# Altium footprint library SparkFun-Passives.PCBLIB: 100 footprints (part 4 of 7)
Each footprint in its own frame and in the unit in brackets; x right, y up, seen from the top. Pads: shape width x height; smd on the part's side, far side on the other; paste and mask are expansions set on the pad; w line width, h text height; cw(c..) or ccw(c..) is an arc to the next point about the centre after c.
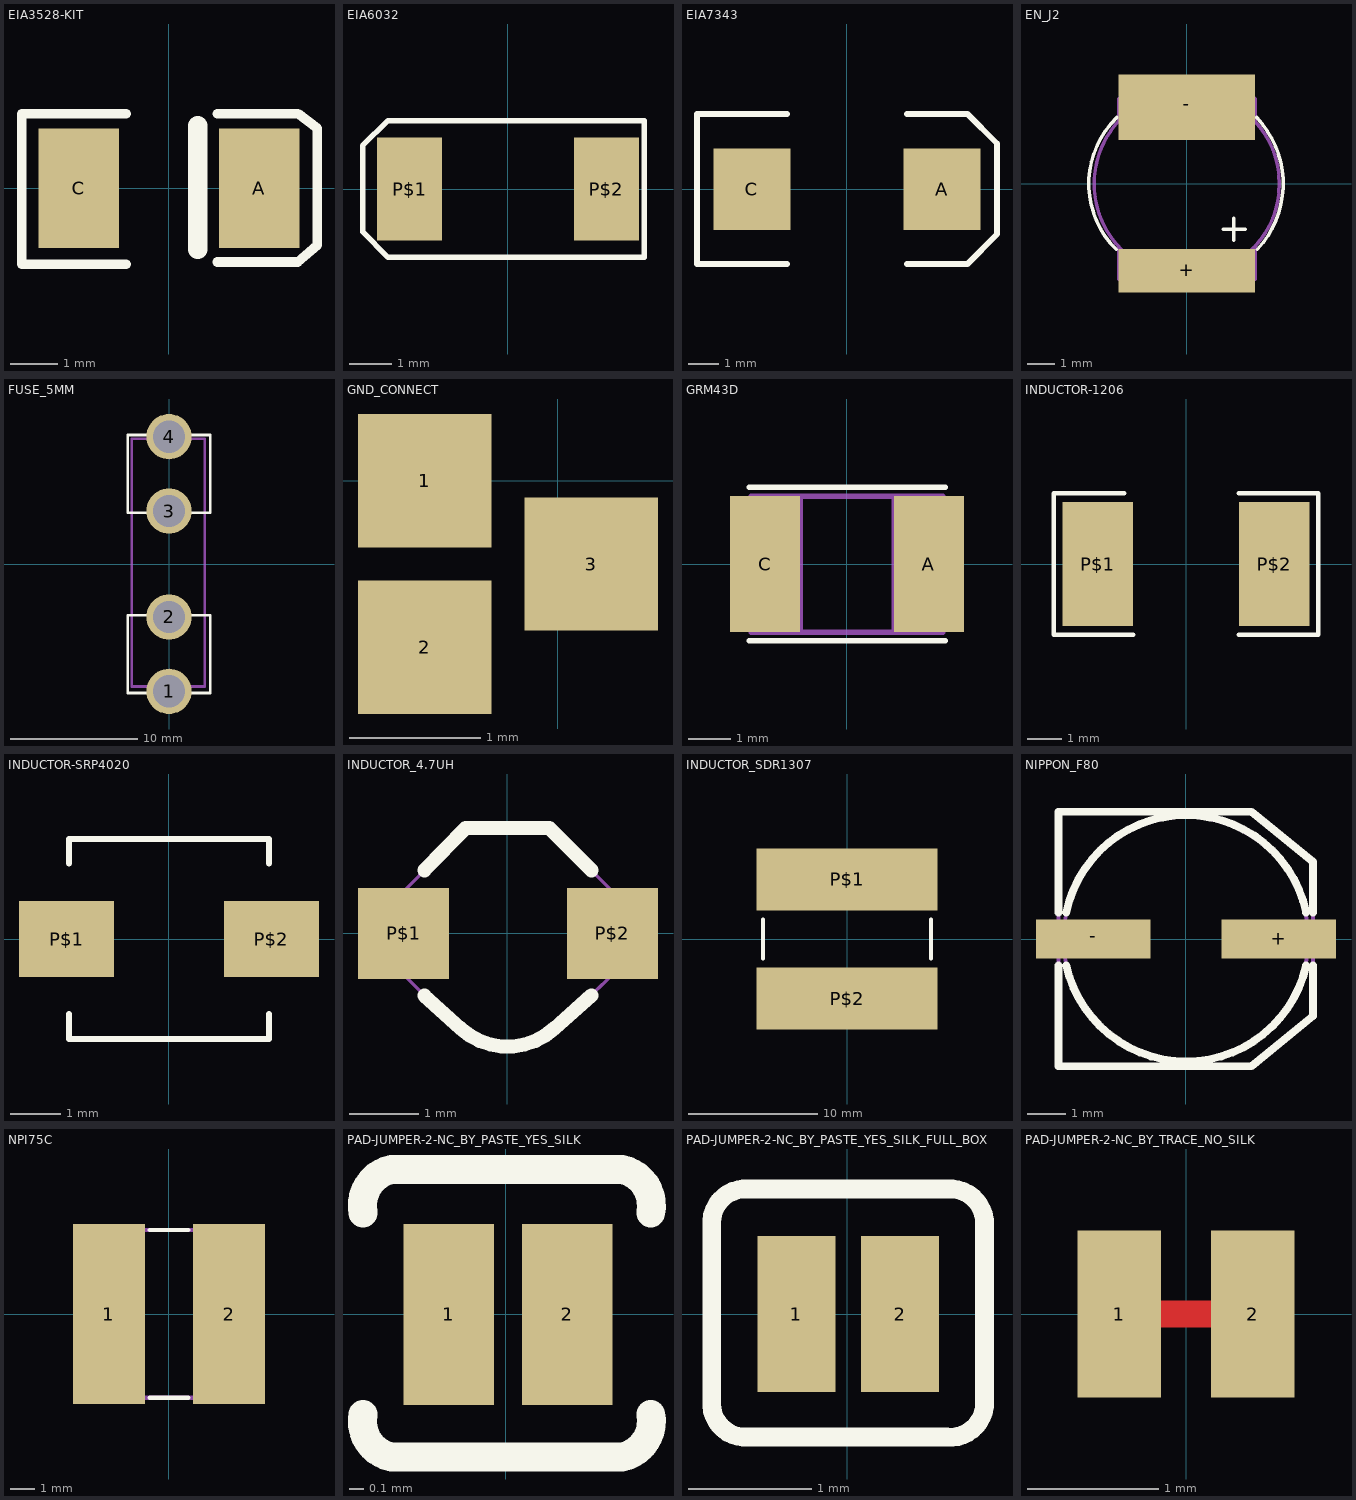
[diagram p3: the footprints below, top view; thin cyan lines are the x and y axes]

## EIA3528-KIT [mil]
pads (2):
  rect 67x99 smd: A(75,0) C(-74.8,0)
Top Overlay:
  lines w8: -35.43,-62.99 -122.05,-62.99 -122.05,62 -35.43,62 ; 40,-61.02 107,-61.02 123,-47.24 123,50 107,62 40,62
  lines w16: 24,-50.63 24,52
Mechanical 2:
  text ">NAME" at -89.37,-50 h77.5
Mechanical 4:
  text ">VALUE" at 128,-53.94 h77.5

## EIA6032 [mil]
pads (2):
  rect 60x95 smd: P$1(-90.55,0) P$2(91,0)
Top Overlay:
  lines w5: -133.86,-39.37 -133.86,40 -110.24,63 126,63 126,-62.99 -110.24,-62.99 -133.86,-39.37

## EIA7343 [mil]
pads (2):
  rect 101x107 smd: A(125,0) C(-124.8,0)
Top Overlay:
  lines w8: -78.74,-98.43 -196.85,-98.43 -196.85,99 -78.74,99 ; 79,-98.43 158,-98.43 197,-59.06 197,60 158,99 79,99
Mechanical 2:
  text ">Name" at -50,50 h24.8
Mechanical 4:
  text ">Value" at -50,-50 h24.8

## EN_J2 [mil]
pads (2):
  rect 197x63 smd: +(0,-125.98)
  rect 197x95 smd: -(0,111)
Top Overlay:
  lines w5: -102,-95 cw(c-8,0.01) -101,96 ; 53,-66 85,-66 ; 68,-82 68,-50 ; 101,96 cw(c0.5,-0.03) 102,-95
Mechanical 2:
  text ">NAME" at -89.76,26 h24.8
Mechanical 4:
  text ">VALUE" at -90.94,-47.64 h24.8
Mechanical 16:
  circle w5: c0,0 r134
  lines w5: -98.43,-90.55 -98.43,-137.8 99,-137.8 99,-90.55 ; -98.43,91 -98.43,123 -82.68,138 83,138 99,123 99,91

## FUSE_5MM [mil]
pads (4):
  round 140 hole 100: 1(0,-393.7) 2(0,-163.7) 3(0,164) 4(0,394)
Top Overlay:
  lines w8: -127,-161.7 -127,-398.7 127,-398.7 127,-158.7 -127,-158.7 ; 127,159 -127,159 -127,399 127,399 127,162
Mechanical 16:
  lines w8: -115,-378.7 -115,387 110,387 110,362 110,-378.7 10,-378.7 -115,-378.7

## GND_CONNECT [mil]
pads (3):
  rect 40x40 smd: 1(-40,0) 2(-40,-50) 3(10,-25)
Mechanical 2:
  text ">NAME" at -35,50 h77.5
Mechanical 4:
  text ">VALUE" at -45,-160 h77.5

## GRM43D [mil]
pads (2):
  rect 65x126 smd: A(76,0) C(-75.87,0)
Top Overlay:
  lines w5: -90.55,-70.87 91,-70.87 ; -90.55,71 91,71
Mechanical 2:
  text ">NAME" at -78.74,79 h24.8
Mechanical 4:
  text ">VALUE" at 0,-78.74 h24.8
Mechanical 16:
  rectangle: -86.61,-62.99 -43.31,63
  rectangle: 44,-62.99 87,63
  lines w5: -43.31,-62.99 -88.58,-62.99 -88.58,63 -43.31,63 ; -43.31,-62.99 44,-62.99 ; -43.31,-62.99 -43.31,63 ; -43.31,63 44,63 ; 44,-62.99 89,-62.99 89,63 44,63 ; 44,-62.99 44,63

## INDUCTOR-1206 [mil]
pads (2):
  rect 80x140 smd: P$1(-100,0) P$2(100,0)
Top Overlay:
  lines w5: -70,80 -150,80 -150,-80 -60,-80 ; 60,-80 150,-80 150,80 60,80
Mechanical 2:
  text ">Name" at -50,100 h24.8
Mechanical 4:
  text ">Value" at -50,-100 h24.8

## INDUCTOR-SRP4020 [mil]
pads (2):
  rect 75x60 smd: P$1(-80.71,0) P$2(81,0)
Top Overlay:
  lines w5: -78.74,-59.06 -78.74,-78.74 79,-78.74 79,-59.06 ; -78.74,60 -78.74,79 79,79 79,60
Mechanical 2:
  text ">NAME" at -80,90 h27.2
  text ">VALUE" at -80,-120 h27.2

## INDUCTOR_4.7UH [mil]
pads (2):
  rect 52x52 smd: P$1(-59.06,0) P$2(60,0)
Top Overlay:
  lines w8: -47.24,-35.43 -26.7,-54.09 ccw(c0.15,-25) 27,-54.09 48,-35.43 ; -47.24,36 -23.62,60 24,60 48,36
Mechanical 2:
  text ">NAME" at 111,28 h24.8
Mechanical 4:
  text ">VALUE" at 111,-39.37 h24.8
Mechanical 16:
  lines w2: -59.06,-23.62 -27.84,-54.84 ccw(c0.08,-26.92) 28,-54.84 60,-23.62 60,24 24,60 -23.62,60 -59.06,24 -59.06,-23.62

## INDUCTOR_SDR1307 [mil]
pads (2):
  rect 552x188 smd: P$1(0,182) P$2(0,-181.1)
Top Overlay:
  lines w12: -255.91,-59.06 -255.91,60 ; 256,-59.06 256,60
Mechanical 2:
  text ">NAME" at -275.59,296 h27.2
Mechanical 4:
  text ">VALUE" at -275.59,-334.65 h27.2

## NIPPON_F80 [mil]
pads (2):
  rect 117x40 smd: +(95,0) -(-94.49,0)
Top Overlay:
  lines w8: -129.92,-26.97 -129.92,-129.92 67,-129.92 130,-78.74 130,-26.97 ; -129.92,27 -129.92,130 67,130 130,79 130,27 ; -122.05,-26.97 ccw(c0.48,0.48) 123,-26.97 ; -122.05,27 cw(c0.48,1.52) 123,27
Mechanical 2:
  text ">NAME" at -125.98,138 h24.8
Mechanical 4:
  text ">VALUE" at -125.98,-151.57 h24.8
Mechanical 16:
  circle w4: c0,0 r125
  lines w4: -129.92,-129.92 67,-129.92 130,-78.74 130,79 67,130 -129.92,130 -129.92,-129.92

## NPI75C [mil]
pads (2):
  rect 119x296 smd: 1(-98.43,0) 2(99,0)
Top Overlay:
  lines w7: -31.5,-137.8 32,-137.8 ; -31.5,138 32,138
Mechanical 16:
  lines w7: -153.54,-137.8 -153.54,138 154,138 154,-137.8 -153.54,-137.8

## PAD-JUMPER-2-NC_BY_PASTE_YES_SILK [mil]
pads (2):
  rect 25x50 smd: 1(-15.78,0) 2(17,0)
Top Overlay:
  lines w8: -39.37,-27.56 ccw(c-29.53,-29.53) -31.5,-39.37 32,-39.37 ccw(c30.1,-29.47) 40,-27.56 ; -39.37,28 cw(c-29.44,30.07) -31.5,40 32,40 cw(c30.01,30.01) 40,28
Top Paste:
  rectangle: -40,-40 40,40
Mechanical 2:
  text ">NAME" at -37.5,50 h24.8
Mechanical 4:
  text ">VALUE" at -37.5,-65 h24.8

## PAD-JUMPER-2-NC_BY_PASTE_YES_SILK_FULL_BOX [mil]
pads (2):
  rect 25x50 smd: 1(-16.22,0) 2(17,0)
Top Overlay:
  lines w6: -43.31,-29.53 ccw(c-32.49,-28.56) -31.5,-39.37 32,-39.37 ccw(c33.08,-28.45) 44,-29.53 44,30 ccw(c33,29) 32,40 -31.5,40 ccw(c-32.4,29.09) -43.31,30 -43.31,-29.53
Top Paste:
  rectangle: -48,-45 48,45
Mechanical 2:
  text ">NAME" at -37.39,50 h24.8
Mechanical 4:
  text ">VALUE" at -37.39,-65 h24.8

## PAD-JUMPER-2-NC_BY_TRACE_NO_SILK [mil]
pads (2):
  rect 25x50 smd: 1(-20,0) 2(20,0)
Top Layer:
  lines w8: -15,0 15,0
Mechanical 2:
  text ">NAME" at 0,35 h24.8
Mechanical 4:
  text ">VALUE" at 0,-35 h24.8